# EAGLE library part ZMISC_OPAMP_LF353 (library PowerMeasurementLBR)
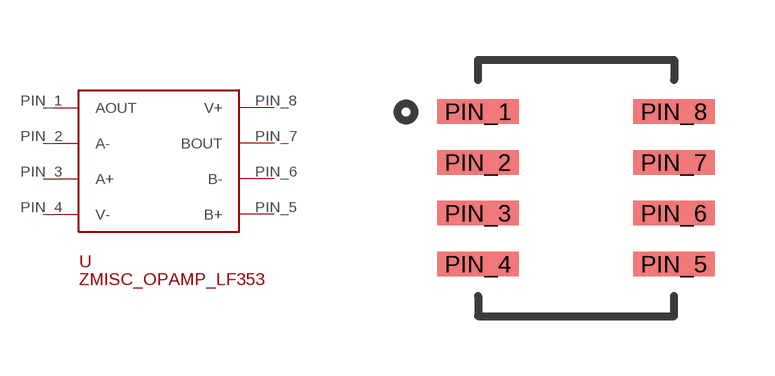
[diagram p0: symbol with the pads of SOIC-8; footprint SOIC-8]

Designator prefix -

## ZMISC_OPAMP_LF353  [SOIC-8]
PIN_1  AOUT
PIN_2  A-
PIN_3  A+
PIN_4  V-
PIN_5  B+
PIN_6  B-
PIN_7  BOUT
PIN_8  V+

## Footprint SOIC-8 (pad centres in mm)
smd 2.03 x 0.61: PIN_1 0,0.01; PIN_2 0,-1.26; PIN_3 0,-2.53; PIN_4 0,-3.8; PIN_5 4.9,-3.8; PIN_6 4.9,-2.53; PIN_7 4.9,-1.26; PIN_8 4.9,0.01